# Altium schematic symbol library Power_Lib.SchLib: 7 symbols
Pins are listed as number, name and electrical type; pins without a type are passive.

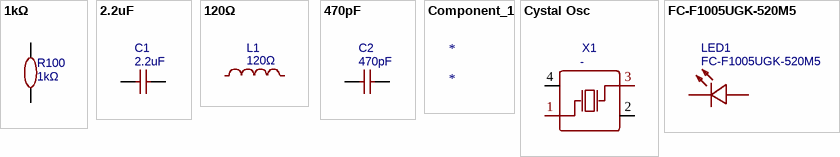
[diagram p0: symbols 1kΩ to FC-F1005UGK-520M5]

## 1kΩ
designator R100
Manufacturer: UNI-ROYAL(厚声); Manufacturer Part: 0402WGF1001TCE; nameAlias: Value; Supplier: LCSC; Supplier Part: C11702; JLCPCB Part Class: Basic Part; link: https://lcsc.com/eda_search?q=C11702&%26type=1&ref=editor; spicePre: R; spiceSymbolName: 0402WGF1001TCE
footprint R0402
pins: 1, 2

## 2.2uF
designator C1
Manufacturer Part: CL10A225KO8NNNC; Manufacturer: SAMSUNG(三星); nameAlias: Value; Supplier: LCSC; Supplier Part: C23630; JLCPCB Part Class: Basic Part; link: https://lcsc.com/eda_search?q=C23630&%26type=1&ref=editor; spicePre: C; spiceSymbolName: CL10A225KO8NNNC
footprint C0603
pins: 1, 2

## 120Ω
designator L1
Manufacturer: Sunlord(顺络); Manufacturer Part: PZ1608D121-2R0TF; nameAlias: Value; Supplier: LCSC; Supplier Part: C42102; JLCPCB Part Class: Extended Part; spicePre: L; spiceSymbolName: PZ1608D121-2R0TF
footprint L0603
pins: 1, 2

## 470pF
designator C2
Manufacturer: FH(风华); Manufacturer Part: 0402B471K500NT; nameAlias: Value; Supplier: LCSC; Supplier Part: C1537; JLCPCB Part Class: Basic Part; link: https://lcsc.com/eda_search?q=C1537&%26type=1&ref=editor; spicePre: C; spiceSymbolName: 0402B471K500NT
footprint C0402
pins: 1, 2

## Component_1
designator *

## Cystal Osc
designator X1, comment -
Manufacturer: HELE(台湾加高); Manufacturer Part: X3Z016000B91H-U; nameAlias: Value; Contributor: LCSC; Supplier: LCSC; Supplier Part: C254221; JLCPCB Part Class: Extended Part; link: https://lcsc.com/eda_search?q=C254221&%26type=1&ref=editor; spicePre: X; spiceSymbolName: X3Z016000B91H-U
footprint OSC-SMD_4P-L3.2-W2.5-BL
pins: 1 OSC1, 2 GND, 3 OSC2, 4 GND

## FC-F1005UGK-520M5
designator LED1
Manufacturer: 国星光电; Manufacturer Part: NCD0402G1; Contributor: LCSC; Supplier: LCSC; Supplier Part: C130723; JLCPCB Part Class: Extended Part; link: https://lcsc.com/eda_search?q=C130723&%26type=1&ref=editor; spicePre: L; spiceSymbolName: FC-F1005UGK-520M5
footprint LED0402-RD
pins: 1 K, 2 A